# Altium footprint library Intelligent_Agriculture1.PcbLib: 26 footprints (part 2 of 2)
Each footprint in its own frame and in the unit in brackets; x right, y up, seen from the top. Pads: shape width x height; smd on the part's side, far side on the other; paste and mask are expansions set on the pad; w line width, h text height; cw(c..) or ccw(c..) is an arc to the next point about the centre after c.
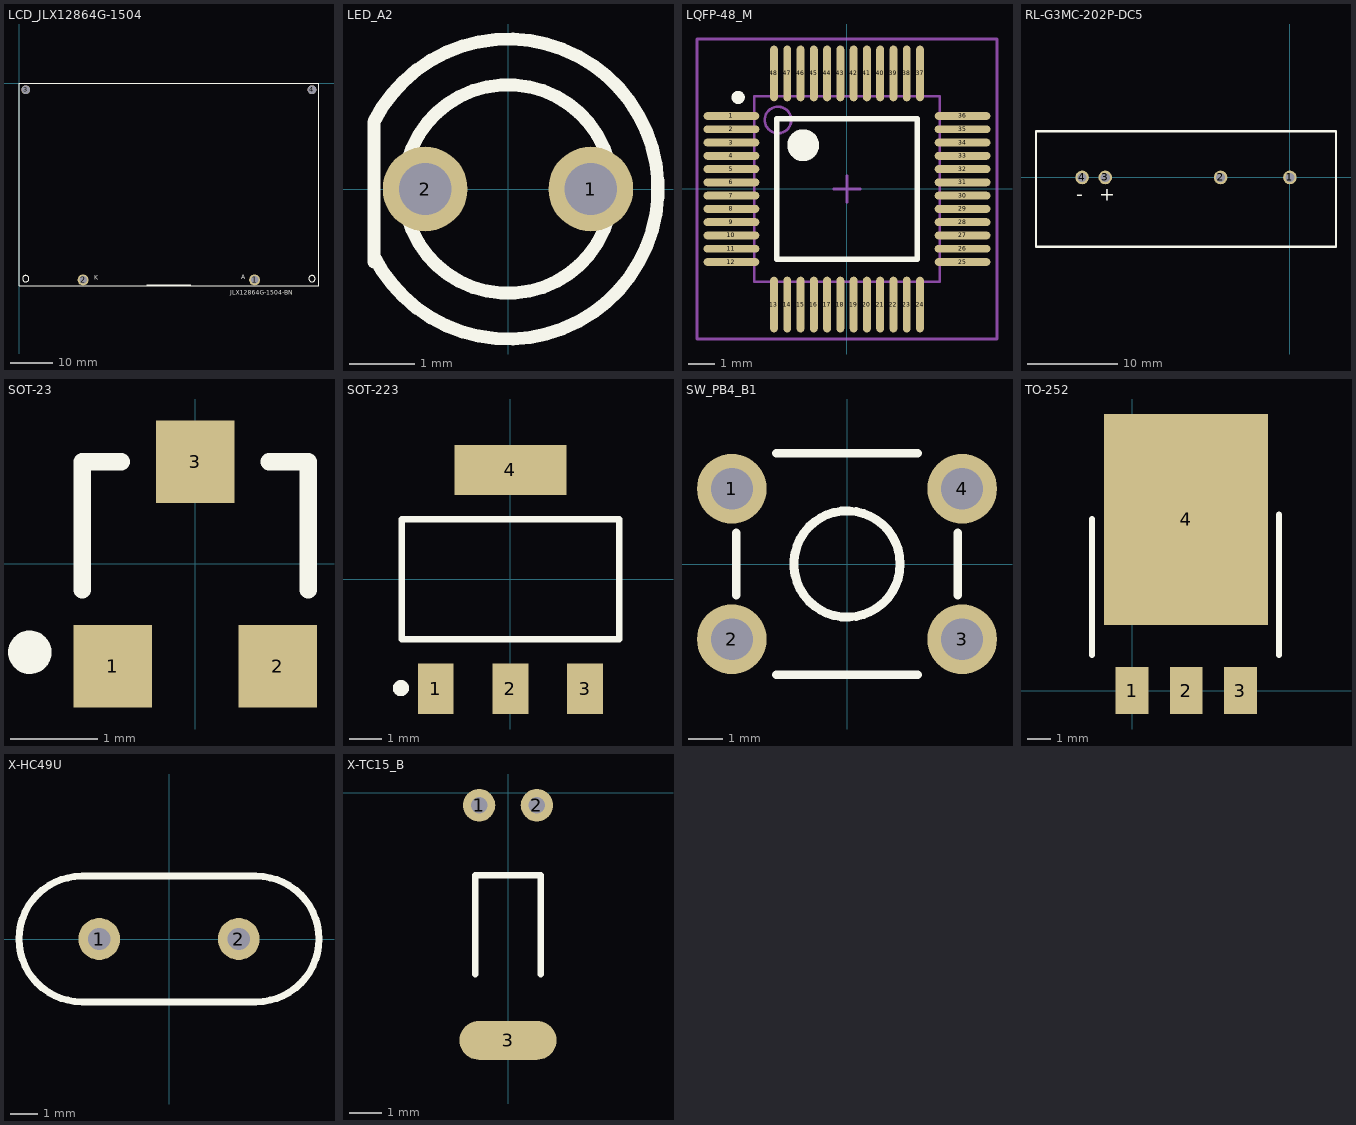
[diagram p1: the footprints below, top view; thin cyan lines are the x and y axes]

## LCD_JLX12864G-1504 [mm]
pads (4):
  round 2.6 hole 1.8: 1(56.05,-46.85) 2(15.25,-46.85)
  round 2.1 hole 2.1: 3(1.6,-1.6) 4(69.7,-1.6)
Top Overlay:
  circle w0.254: c1.6,-46.55 r0.762
  circle w0.254: c69.7,-46.55 r0.762
  lines w0.254: 30.4,-48 40.9,-48 ; 0,-48.26 0,0 71.374,0 71.374,-48.26 0,-48.26
  text "A" at 52.832,-46.736 h1.02
  text "K" at 17.907,-46.863 h1.02
  text "JLX12864G-1504-BN" at 50.217,-50.435 h1.02

## LED_A2 [mm]
pads (2):
  round 1.3 hole 0.8: 1(1.27,0) 2(-1.27,0)
Top Overlay:
  circle w0.2: c0,0 r1.6
  lines w0.2: -2.057,-1.118 -2.057,1.029 cw(c0,0) -2.057,-1.029

## LQFP-48_M [mm]
pads (48):
  oval 2.1x0.3 smd: 1(-4.354,2.75) 2(-4.354,2.25) 3(-4.354,1.75) 4(-4.354,1.25) 5(-4.354,0.75) 6(-4.354,0.25) 7(-4.354,-0.25) 8(-4.354,-0.75) 9(-4.354,-1.25) 10(-4.354,-1.75) 11(-4.354,-2.25) 12(-4.354,-2.75) 25(4.354,-2.75) 26(4.354,-2.25) 27(4.354,-1.75) 28(4.354,-1.25) 29(4.354,-0.75) 30(4.354,-0.25) 31(4.354,0.25) 32(4.354,0.75) 33(4.354,1.25) 34(4.354,1.75) 35(4.354,2.25) 36(4.354,2.75)
  oval 0.3x2.1 smd: 13(-2.75,-4.354) 14(-2.25,-4.354) 15(-1.75,-4.354) 16(-1.25,-4.354) 17(-0.75,-4.354) 18(-0.25,-4.354) 19(0.25,-4.354) 20(0.75,-4.354) 21(1.25,-4.354) 22(1.75,-4.354) 23(2.25,-4.354) 24(2.75,-4.354) 37(2.75,4.354) 38(2.25,4.354) 39(1.75,4.354) 40(1.25,4.354) 41(0.75,4.354) 42(0.25,4.354) 43(-0.25,4.354) 44(-0.75,4.354) 45(-1.25,4.354) 46(-1.75,4.354) 47(-2.25,4.354) 48(-2.75,4.354)
Top Overlay:
  circle w0.25: c-4.1,3.45 r0.125
  circle w0.6: c-1.65,1.65 r0.3
  lines w0.2: -2.65,-2.65 -2.65,2.65 2.65,2.65 2.65,-2.65 -2.65,-2.65
Mechanical 13:
  circle w0.1: c-2.6,2.6 r0.5
  lines w0.1: -3.5,-3.5 -3.5,3.5 3.5,3.5 3.5,-3.5 -3.5,-3.5
Mechanical 15:
  lines w0.1: -0.5,0 0.5,0 ; 0,-0.5 0,0.5 ; -5.65,-5.65 -5.65,5.65 5.65,5.65 5.65,-5.65 -5.65,-5.65
3D body: height 1.6, standoff 0, extent -3.5,-3.5 3.5,3.5

## RL-G3MC-202P-DC5 [mm] "5V 固态继电器"
pads (4):
  round 1.5 hole 1: 1(0,0) 2(-7.62,0) 3(-20.32,0) 4(-22.86,0)
Top Overlay:
  lines w0.254: -27.94,-7.62 -27.94,5.08 5.08,5.08 5.08,-7.62 -27.94,-7.62
  text "-" at -23.495,-2.54 h1.52
  text "+" at -20.955,-2.54 h1.52

## SOT-23 [mm]
pads (3):
  rect 0.9x0.95 smd: 1(-0.95,-1.175) 2(0.95,-1.175) 3(0,1.175)
Top Overlay:
  circle w0.25: c-1.903,-1.016 r0.125
  lines w0.2: -1.3,-0.3 -1.3,1.175 -0.85,1.175 ; 0.85,1.175 1.3,1.175 1.3,-0.3

## SOT-223 [mm]
pads (4):
  rect 1.1x1.55 smd: 1(-2.3,-3.375) 2(0,-3.375) 3(2.3,-3.375)
  rect 3.45x1.55 smd: 4(0,3.375)
Top Overlay:
  circle w0.25: c-3.376,-3.353 r0.125
  lines w0.2: -3.35,-1.85 3.35,-1.85 3.35,1.85 -3.35,1.85 -3.35,-1.85
3D body: height 0.3, standoff 0, extent 1.905,-3.937 2.794,-2.032
3D body: height 0.3, standoff 0, extent -0.508,-3.937 0.381,-2.032
3D body: height 0.3, standoff 0, extent -2.794,-3.937 -1.905,-2.032
3D body: height 0.3, standoff 0, extent -1.651,2.159 1.651,3.429
3D body: height 0.8, standoff 0, extent -3.302,-2.032 3.302,2.159

## SW_PB4_B1 [mm]
pads (4):
  round 2 hole 1.2: 1(-3.302,2.159) 2(-3.302,-2.159) 3(3.302,-2.159) 4(3.302,2.159)
Top Overlay:
  circle w0.254: c0,0 r1.524
  lines w0.25: -3.175,-0.889 -3.175,0.889 ; -2.032,-3.175 2.032,-3.175 ; -2.032,3.175 2.032,3.175 ; 3.175,-0.889 3.175,0.889
3D body: height 6, standoff 0, extent -1.524,-1.524 1.524,1.524
3D body: height 1.5, standoff 0, extent -3.175,-3.175 3.175,3.175

## TO-252 [mm]
pads (4):
  rect 1.4x2 smd: 1(0,0) 2(2.311,0) 3(4.623,0)
  rect 7x9 smd: 4(2.3,7.3)
Top Overlay:
  lines w0.254: -1.716,1.524 -1.716,7.315 ; 6.261,1.524 6.261,7.515

## X-HC49U [mil]
pads (2):
  round 60 hole 32: 1(-100,0) 2(100,0)
Top Overlay:
  lines w10: -125,-90 cw(c-125,0) -125,90 125,90 cw(c125,0) 125,-90 -125,-90

## X-TC15_B [mm]
pads (3):
  round 1 hole 0.5: 1(-0.889,-0.381) 2(0.889,-0.381)
  oval 3x1.2 smd: 3(0,-7.62)
Top Overlay:
  lines w0.2: -1.016,-5.588 -1.016,-2.54 1.016,-2.54 1.016,-5.588
3D body: height 1.99, standoff 0, extent -0.998,-8.286 0.998,-2.286
3D body: height 1.1, standoff 0.9, extent -0.735,-3 -0.535,0
3D body: height 1.1, standoff 0.9, extent 0.535,-3 0.735,0